# EAGLE library part 5110_DISPLAY (library v15)
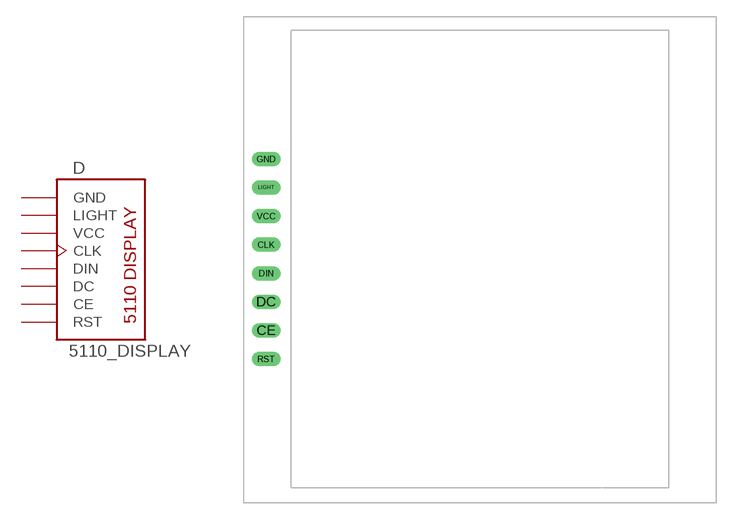
[diagram p4: symbol with the pads of 5110_LAYOUT; footprint 5110_LAYOUT]

Designator prefix D

## 5110_DISPLAY  [5110_LAYOUT]
CE  CE
CLK  CLK
DC  DC
DIN  DIN
GND  GND
LIGHT  LIGHT
RST  RST
VCC  VCC

## Footprint 5110_LAYOUT (pad centres in mm)
drill 0.8 long: CE 0,-5.08; CLK 0,2.54; DC 0,-2.54; DIN 0,0; GND 0,10.16; LIGHT 0,7.62; RST 0,-7.62; VCC 0,5.08